# Altium integrated library UC3843BD1G.IntLib: 1 symbol
Pins are listed as number, name and electrical type; pins without a type are passive.

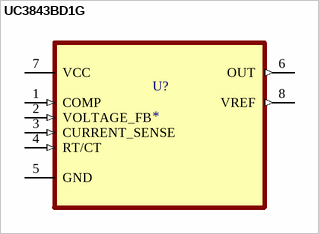
[diagram p0: symbol UC3843BD1G]

## UC3843BD1G
designator U?
UC3843BD1G, PWM Current Mode Controller, 1 A, 500 kHz 8-Pin SOIC | ON Semiconductor UC3843BD1G; SnapEDA_Link: https://www.snapeda.com/parts/UC3843BD1G/Onsemi/view-part/?ref=snap; Package: SOIC-8 ON Semiconductor; Value: *; MF: ON Semiconductor; MP: UC3843BD1G; Check_prices: https://www.snapeda.com/parts/UC3843BD1G/Onsemi/view-part/?ref=eda
footprint SOIC127P600X175-8N
pins: 1 COMP (in), 2 VOLTAGE_FB (in), 3 CURRENT_SENSE (in), 4 RT/CT (in), 5 GND, 6 OUT (out), 7 VCC (power), 8 VREF (out)